# Altium schematic symbol library RES_4TERM.SchLib: 1 symbol
Pins are listed as number, name and electrical type; pins without a type are passive.

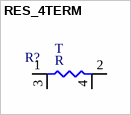
[diagram p0: symbol RES_4TERM]

## RES_4TERM
designator R?  Tolerance: T  Resistance: R
=Description
pins: 1, 2, 3, 4